# EAGLE library part LT6004IMS8 (library linear2)
LT6004IMS8 Variante: MSOP, -40°C to 85°C
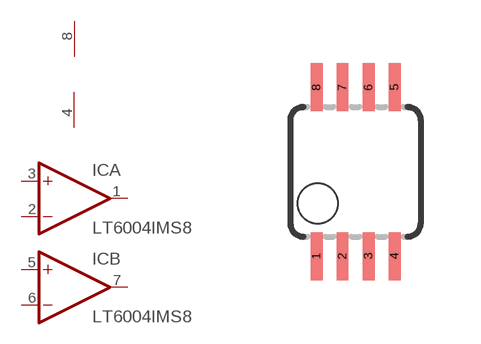
[diagram p0: symbol with the pads of MSOP08; footprint MSOP08]

Designator prefix IC; gates B=LT6004IMS8 A=LT6004IMS8 POWER=POWER

## LT6004IMS8  [MSOP08]
1  A:OUT  out
2  A:-IN  in
3  A:+IN  in
4  POWER:V-
5  B:+IN  in
6  B:-IN  in
7  B:OUT  out
8  POWER:V+

## Footprint MSOP08 (pad centres in mm)
Mini Small Outline Package
smd 0.3 x 1.2: 1 -0.976,-2.113; 2 -0.326,-2.113; 3 0.324,-2.113; 4 0.974,-2.113; 5 0.974,2.112; 6 0.324,2.112; 7 -0.326,2.112; 8 -0.976,2.112